# EAGLE library part CD4071 (library jack_libs)
2 input 4 gate OR IC
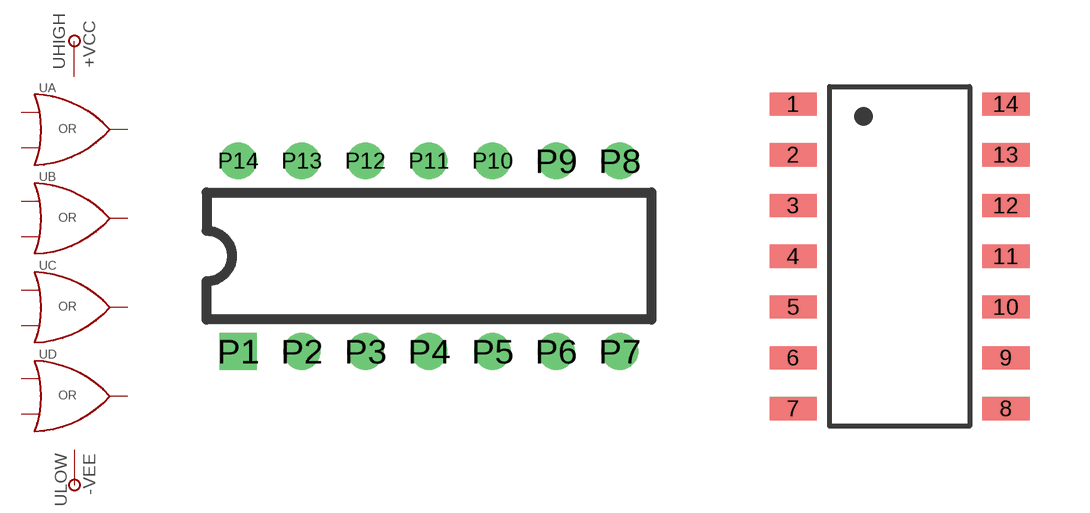
[diagram p3: symbol with the pads of DIP-14; footprints DIP-14, SOIC14]

Designator prefix U; gates A=LOGIC_OR_GATE B=LOGIC_OR_GATE C=LOGIC_OR_GATE D=LOGIC_OR_GATE HIGH=LOGIC_VCC LOW=LOGIC_VEE

## CD4071N  [DIP-14]
P1  A:IN_A
P2  A:IN_B
P3  A:OUT
P4  B:OUT
P5  B:IN_A
P6  B:IN_B
P7  LOW:P$1
P8  C:IN_A
P9  C:IN_B
P10  C:OUT
P11  D:OUT
P12  D:IN_A
P13  D:IN_B
P14  HIGH:P$1

## CD4071D  [SOIC14]
1  A:IN_A
2  A:IN_B
3  A:OUT
4  B:OUT
5  B:IN_A
6  B:IN_B
7  LOW:P$1
8  C:IN_A
9  C:IN_B
10  C:OUT
11  D:OUT
12  D:IN_A
13  D:IN_B
14  HIGH:P$1

## Footprint DIP-14 (pad centres in mm)
drill 0.965 square: P1 -7.62,-3.81
drill 0.965: P2 -5.08,-3.81; P3 -2.54,-3.81; P4 0,-3.81; P5 2.54,-3.81; P6 5.08,-3.81; P7 7.62,-3.81; P8 7.62,3.81; P9 5.08,3.81; P10 2.54,3.81; P11 0,3.81; P12 -2.54,3.81; P13 -5.08,3.81; P14 -7.62,3.81

## Footprint SOIC14 (pad centres in mm)
smd 1.18 x 0.58: 1 -2.66,3.81; 2 -2.66,2.54; 3 -2.66,1.27; 4 -2.66,0; 5 -2.66,-1.27; 6 -2.66,-2.54; 7 -2.66,-3.81; 8 2.66,-3.81; 9 2.66,-2.54; 10 2.66,-1.27; 11 2.66,0; 12 2.66,1.27; 13 2.66,2.54; 14 2.66,3.81